# EAGLE library part 560020-1020 (library 560020-1020)
Headers & Wire Housings 2.0 W/B SMT ST10ckt EMBOSSED TP PKG Source: Datasheet <https://www.molex.com/pdm_docs/sd/5600201020_sd.pdf>
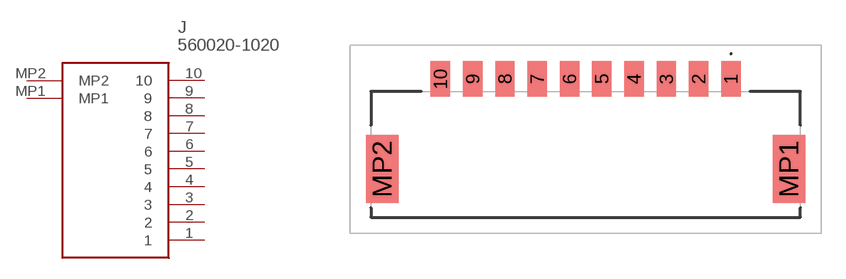
[diagram p0: symbol with the pads of 5600201020; footprint 5600201020]

Designator prefix J

## 560020-1020 (Description: Headers & Wire Housings 2.0 W/B SMT ST10ckt EMBOSSED TP PKG; Height: 8mm; Manufacturer_Name: Molex; Manufacturer_Part_Number: 560020-1020; Mouser_Part_Number: 538-560020-1020; Mouser_Price-Stock: https://www.mouser.co.uk/ProductDetail/Molex/560020-1020?qs=c8NFF48pVsBr9szpbon2vA%3D%3D)  [5600201020]
1  1
2  2
3  3
4  4
5  5
6  6
7  7
8  8
9  9
10  10
MP1  MP1
MP2  MP2

## Footprint 5600201020 (pad centres in mm)
560020-1020-2
smd 1.2 x 2.2: 1 9,4.68; 2 7,4.68; 3 5,4.68; 4 3,4.68; 5 1,4.68; 6 -1,4.68; 7 -3,4.68; 8 -5,4.68; 9 -7,4.68; 10 -9,4.68
smd 2 x 4.2: MP1 12.6,-0.9; MP2 -12.6,-0.9